# Altium schematic symbol library EEUTA1C471SB.SchLib: 1 symbol
Pins are listed as number, name and electrical type; pins without a type are passive.

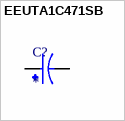
[diagram p0: symbol EEUTA1C471SB]

## EEUTA1C471SB
designator C?
TA-A; MF: {'manufacturer': u'Panasonic'}; MP: EEUTA1C471SB; Package: None; Price: None; Value: *; Availability: Unavailable
footprint CAPPRD500W60D1250H1250
pins: N, P